# EAGLE library part HARWIN_26PIN (library DSDEagleLibrary)
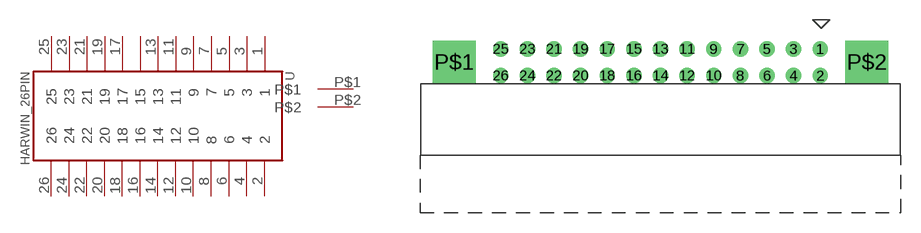
[diagram p22: symbol with the pads of HARWIN_26PIN; footprint HARWIN_26PIN]

Designator prefix -

## HARWIN_26PIN  [HARWIN_26PIN]
1  1
2  2
3  3
4  4
5  5
6  6
7  7
8  8
9  9
10  10
11  11
12  12
13  13
14  14
15  15
16  16
17  17
18  18
19  19
20  20
21  21
22  22
23  23
24  24
25  25
26  26
P$1  P$1
P$2  P$2

## Footprint HARWIN_26PIN (pad centres in mm)
drill 0.65: 1 12,1; 2 12,-1; 3 10,1; 4 10,-1; 5 8,1; 6 8,-1; 7 6,1; 8 6,-1; 9 4,1; 10 4,-1; 11 2,1; 12 2,-1; 13 0,1; 14 0,-1; 15 -2,1; 16 -2,-1; 17 -4,1; 18 -4,-1; 19 -6,1; 20 -6,-1; 21 -8,1; 22 -8,-1; 23 -10,1; 24 -10,-1; 25 -12,1; 26 -12,-1
drill 2.2 square: P$1 -15.5,0; P$2 15.5,0